# Altium integrated library CUBIC_FC.IntLib: 64 symbols (part 3 of 3)
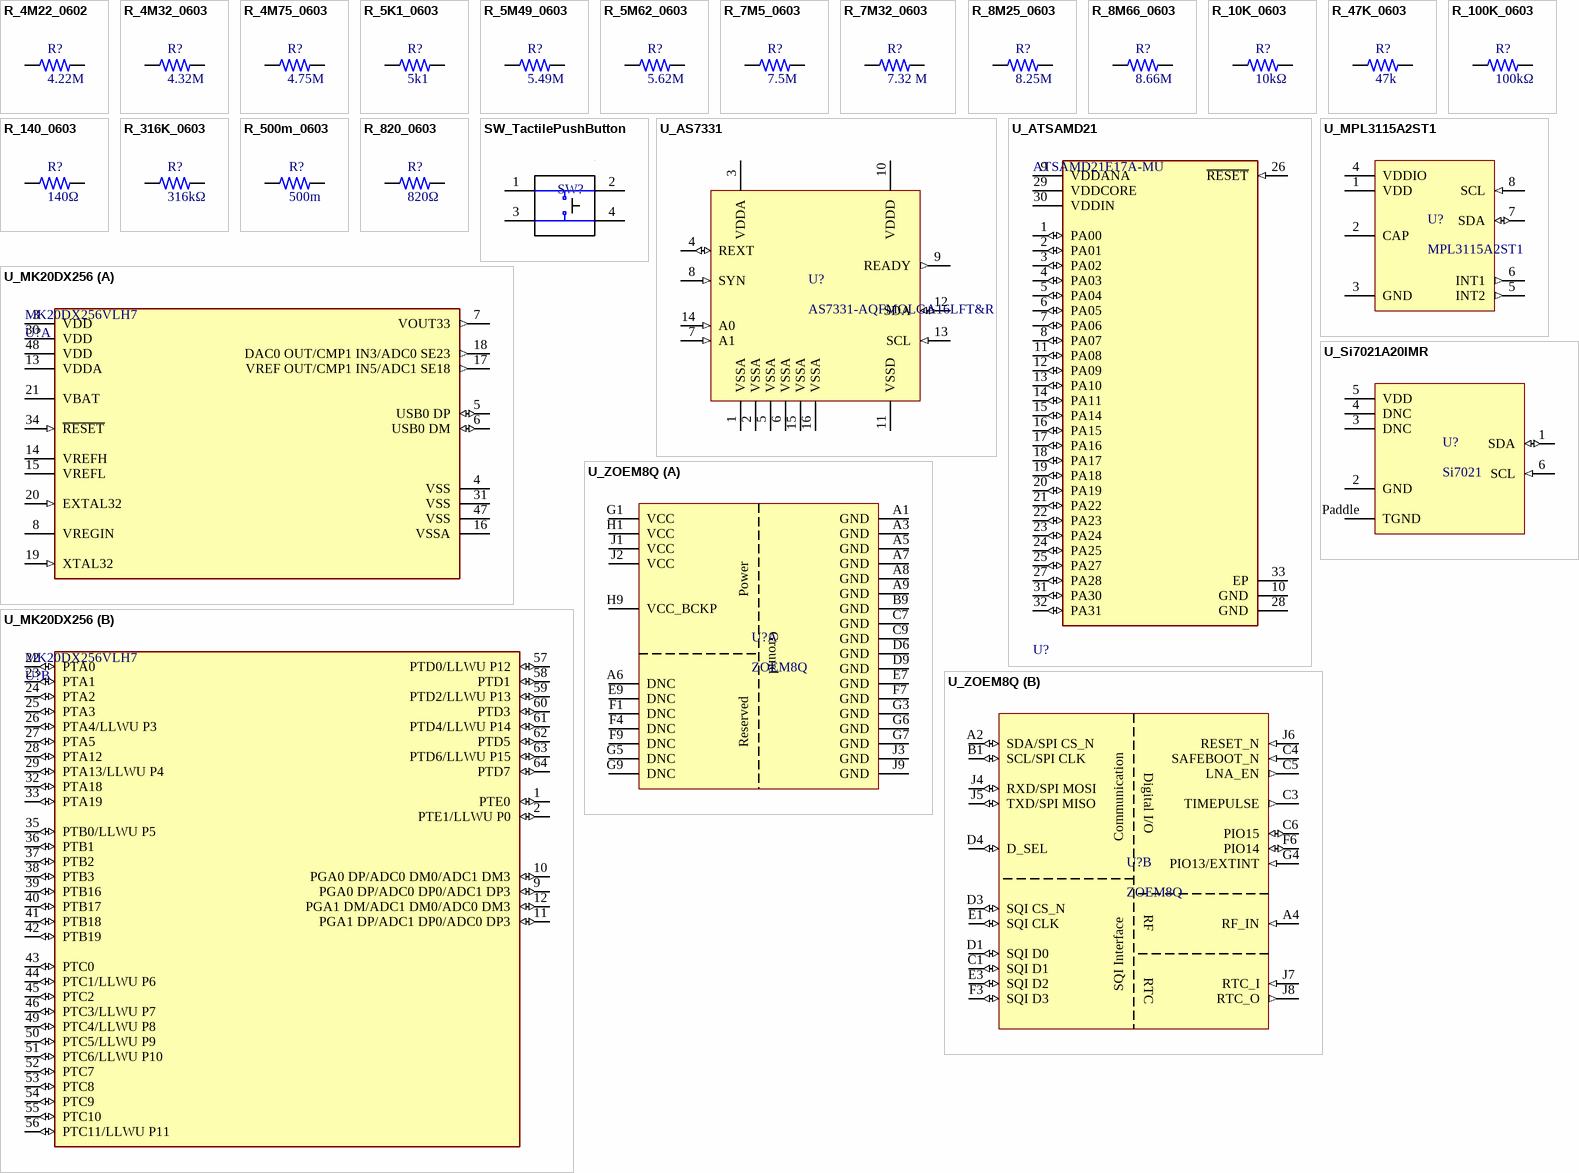
[diagram p3: symbols R_4M22_0602 to U_ZOEM8Q]

## R_8M25_0603
designator R?, comment 8.25M
Fixed Resistor, Metal Glaze/thick Film, 0.1W, 8250000ohm, 75V, 1% +/-Tol, 100ppm/Cel, Surface Mount, 0603; Manufacturer: Vishay; Manufacturer Part Number: CRCW06038M25FKEA; Power: 100mW; Rated Temperature: 70°C; Value: 8.25MR; Temperature Coefficient: 100ppm/°C; Package Height: 0.45mm; Package Length: 1.55mm; Package Width: 0.85mm; Reference Standard: AEC-Q200; Supplier: Digikey; Supplier Part Number: 541-8.25MHCT-ND; RoHS: Yes; Category: Chip SMD Resistors; Stock: 15579; Pricing: 1=0.1, 10=0.026, 50=0.0166, 100=0.0139, 500=0.0095, 1000=0.00821 (USD); Mounting Technology: Surface Mount; Pins: 2; Package Shape: Rectangular; Case/Package: 0603; Terminal Finish: Nickel; Min Operating Temperature: -55°C; Max Operating Temperature: 155°C; Tolerance: 1%; JESD-609 Code: e3; Resistor Type: FIXED RESISTOR; Construction: Chip; Package Style: SMTMeter; Packaging: Tape and Reel; Technology: METAL GLAZE/THICK FILM; Termination: Wraparound; Working Voltage: 75V; Reach SVHC Compliant: Yes; RoHS Compliant: Yes; ComponentLink1URL: https://datasheet.ciiva.com:443/pdfs/VipMasterIC/IC/VISH/VISH-S-A0007266705/VISH-S-A0007266705-1.pdf?src-supplier=IHS+Markit; ComponentLink1Description: https://datasheet.ciiva.com:443/pdfs/VipMasterIC/IC/VISH/VISH-S-A0007266705/VISH-S-A0007266705-1.pdf?src-supplier=IHS+Markit; ComponentLink2URL: https://datasheet.ciiva.com/7748/1697337-7748717.pdf?src-supplier=Element14; ComponentLink2Description: https://datasheet.ciiva.com/7748/1697337-7748717.pdf?src-supplier=Element14; ComponentLink3URL: https://datasheet.ciiva.com/7748/1697337-7748718.pdf?src-supplier=Element14; ComponentLink3Description: https://datasheet.ciiva.com/7748/1697337-7748718.pdf?src-supplier=Element14; ComponentLink4URL: https://datasheet.ciiva.com/2513/dcrcwe3-2513731.pdf?src-supplier=Digikey; ComponentLink4Description: https://datasheet.ciiva.com/2513/dcrcwe3-2513731.pdf?src-supplier=Digikey; ComponentLink5URL: https://datasheet.ciiva.com/2513/dcrcwe3-2513732.pdf?src-supplier=Digikey; ComponentLink5Description: https://datasheet.ciiva.com/2513/dcrcwe3-2513732.pdf?src-supplier=Digikey; ComponentLink6URL: https://datasheet.ciiva.com/2513/dcrcwe3-2513733.pdf?src-supplier=Digikey; ComponentLink6Description: https://datasheet.ciiva.com/2513/dcrcwe3-2513733.pdf?src-supplier=Digikey
footprint R_0603 (Chip Resistor, 2-Leads, Body 1.60x0.80mm, IPC Medium Density)
pins: 1, 2

## R_8M66_0603
designator R?, comment 8.66M
Fixed Resistor, Metal Glaze/thick Film, 0.1W, 8660000ohm, 75V, 1% +/-Tol, 100ppm/Cel, Surface Mount, 0603; Manufacturer: Vishay; Manufacturer Part Number: CRCW06038M66FKEA; Power: 100mW; Rated Temperature: 70°C; Value: 8.66MR; Temperature Coefficient: 100ppm/°C; Package Height: 0.45mm; Package Length: 1.55mm; Package Width: 0.85mm; Reference Standard: AEC-Q200; Supplier: Digikey; Supplier Part Number: 541-8.66MHCT-ND; RoHS: Yes; Category: Chip SMD Resistors; Stock: 28359; Pricing: 1=0.1, 10=0.026, 50=0.0166, 100=0.014, 500=0.00954, 1000=0.00824 (USD); Mounting Technology: Surface Mount; Pins: 2; Package Shape: Rectangular; Case/Package: 0603; Terminal Finish: Nickel; Min Operating Temperature: -55°C; Max Operating Temperature: 155°C; Tolerance: 1%; JESD-609 Code: e3; Resistor Type: FIXED RESISTOR; Construction: Chip; Package Style: SMTMeter; Packaging: Tape and Reel; Technology: METAL GLAZE/THICK FILM; Termination: Wraparound; Working Voltage: 75V; Reach SVHC Compliant: Yes; RoHS Compliant: Yes; ComponentLink1URL: https://datasheet.ciiva.com:443/pdfs/VipMasterIC/IC/VISH/VISH-S-A0007266705/VISH-S-A0007266705-1.pdf?src-supplier=IHS+Markit; ComponentLink1Description: https://datasheet.ciiva.com:443/pdfs/VipMasterIC/IC/VISH/VISH-S-A0007266705/VISH-S-A0007266705-1.pdf?src-supplier=IHS+Markit; ComponentLink2URL: https://datasheet.ciiva.com/5562/dcrcwe3-109170-5562415.pdf?src-supplier=Mouser; ComponentLink2Description: https://datasheet.ciiva.com/5562/dcrcwe3-109170-5562415.pdf?src-supplier=Mouser; ComponentLink3URL: https://datasheet.ciiva.com/22676/1700796-22676840.pdf?src-supplier=Element14; ComponentLink3Description: https://datasheet.ciiva.com/22676/1700796-22676840.pdf?src-supplier=Element14; ComponentLink4URL: https://datasheet.ciiva.com/22676/1700796-22676841.pdf?src-supplier=Element14; ComponentLink4Description: https://datasheet.ciiva.com/22676/1700796-22676841.pdf?src-supplier=Element14; ComponentLink5URL: https://datasheet.ciiva.com/9055/dcrcwe3-9055022.pdf?src-supplier=Avnet; ComponentLink5Description: https://datasheet.ciiva.com/9055/dcrcwe3-9055022.pdf?src-supplier=Avnet; ComponentLink6URL: https://datasheet.ciiva.com/2513/dcrcwe3-2513734.pdf?src-supplier=Digikey; ComponentLink6Description: https://datasheet.ciiva.com/2513/dcrcwe3-2513734.pdf?src-supplier=Digikey; ComponentLink7URL: https://datasheet.ciiva.com/2513/dcrcwe3-2513735.pdf?src-supplier=Digikey; ComponentLink7Description: https://datasheet.ciiva.com/2513/dcrcwe3-2513735.pdf?src-supplier=Digikey; ComponentLink8URL: https://datasheet.ciiva.com/2513/dcrcwe3-2513736.pdf?src-supplier=Digikey; ComponentLink8Description: https://datasheet.ciiva.com/2513/dcrcwe3-2513736.pdf?src-supplier=Digikey
footprint R_0603 (Chip Resistor, 2-Leads, Body 1.60x0.80mm, IPC Medium Density)
pins: 1, 2

## R_10K_0603
designator R?, comment 10kΩ
RES 10KOHM 0.1W 0603; Manufacturer: Stackpole Electronics; Manufacturer Part Number: RMCF0603FT10K0; Tolerance: 1%; Power: 100mW; Rated Temperature: 70°C; Value: 10kR; Temperature Coefficient: 100ppm/°C; Working Voltage: 75V; Package Height: 0.45mm; Package Length: 1.55mm; Package Width: 0.8mm; Reference Standard: AEC-Q200; Supplier: Digikey; Supplier Part Number: RMCF0603FT10K0CT-ND; RoHS: Yes; Category: Chip SMD Resistors; Stock: 7246104; Pricing: 1=0.1, 10=0.015, 50=0.009, 100=0.0075, 500=0.00498, 1000=0.00425 (USD); Mounting Technology: Surface Mount; Pins: 2; Package Shape: Rectangular; Case/Package: 0603; Terminal Finish: Nickel; Min Operating Temperature: -55°C; Max Operating Temperature: 155°C; JESD-609 Code: e3; Resistor Type: FIXED RESISTOR; Construction: Rectangular; Package Style: SMTMeter; Packaging: Tape and Reel; Technology: METAL GLAZE/THICK FILM; Termination: Wraparound; Reach SVHC Compliant: Yes; RoHS Compliant: Yes; ComponentLink1URL: https://datasheet.ciiva.com:443/pdfs/VipMasterIC/IC/SEIE/SEIE-S-A0009541969/SEIE-S-A0009541969-1.pdf?src-supplier=IHS+Markit; ComponentLink1Description: https://datasheet.ciiva.com:443/pdfs/VipMasterIC/IC/SEIE/SEIE-S-A0009541969/SEIE-S-A0009541969-1.pdf?src-supplier=IHS+Markit; ComponentLink2URL: http://components.arrow.com/part/dataview/43747082S6756917N1174?src-supplier=Arrow+Electronics; ComponentLink2Description: http://components.arrow.com/part/dataview/43747082S6756917N1174?src-supplier=Arrow+Electronics; ComponentLink3URL: https://datasheet.octopart.com/RMCF0603FT10K0-Stackpole-Electronics-datasheet-11547379.pdf?src-supplier=Future+Electronics; ComponentLink3Description: https://datasheet.octopart.com/RMCF0603FT10K0-Stackpole-Electronics-datasheet-11547379.pdf?src-supplier=Future+Electronics; ComponentLink4URL: https://www.seielect.com/catalog/SEI-RMCF_RMCP.pdf?src-supplier=Avnet; ComponentLink4Description: https://www.seielect.com/catalog/SEI-RMCF_RMCP.pdf?src-supplier=Avnet; ComponentLink5URL: http://www.seielect.com/catalog/sei-rmc.pdf?src-supplier=Future+Electronics; ComponentLink5Description: http://www.seielect.com/catalog/sei-rmc.pdf?src-supplier=Future+Electronics; ComponentLink6URL: https://www.verical.com/server-webapp/html/getDatasheet?partID=360913&src-supplier=Verical; ComponentLink6Description: https://www.verical.com/server-webapp/html/getDatasheet?partID=360913&src-supplier=Verical; ComponentLink7URL: https://datasheet.octopart.com/RMCF0603FT10K0-Stackpole-Electronics-datasheet-155966809.pdf?src-supplier=Master+Electronics; ComponentLink7Description: https://datasheet.octopart.com/RMCF0603FT10K0-Stackpole-Electronics-datasheet-155966809.pdf?src-supplier=Master+Electronics
footprint R_0603 (Chip Resistor, 2-Leads, Body 1.60x0.80mm, IPC Medium Density)
pins: 1, 2

## R_47K_0603
designator R?, comment 47k
Fixed Resistor, Metal Glaze/thick Film, 0.1W, 47000ohm, 75V, 1% +/-Tol, 100ppm/Cel, Surface Mount, 0603; Manufacturer: Yageo; Manufacturer Part Number: RC0603FR-0747KL; Additional Feature: LASER TRIMMABLE; Power: 100mW; Rated Temperature: 70°C; Value: 47kR; Temperature Coefficient: 100ppm/°C; Package Height: 0.45mm; Package Length: 1.6mm; Package Width: 0.8mm; Supplier: Digikey; Supplier Part Number: 311-47.0KHRCT-ND; RoHS: Yes; Category: Chip SMD Resistors; Stock: 9516223; Pricing: 1=0.1, 10=0.019, 50=0.0112, 100=0.0093, 500=0.00622, 1000=0.00532 (USD); Mounting Technology: Surface Mount; Pins: 2; Package Shape: Rectangular; Case/Package: 0603; Terminal Finish: Nickel; Min Operating Temperature: -55°C; Max Operating Temperature: 155°C; Tolerance: 1%; JESD-609 Code: e3; Resistor Type: FIXED RESISTOR; Construction: Chip; Package Style: SMTMeter; Packaging: Tape and Reel; Technology: METAL GLAZE/THICK FILM; Termination: Wraparound; Working Voltage: 75V; Reach SVHC Compliant: Yes; RoHS Compliant: Yes; ComponentLink1URL: https://datasheet.ciiva.com:443/pdfs/VipMasterIC/IC/YAGO/YAGO-S-A0008145938/YAGO-S-A0008145938-1.pdf?src-supplier=IHS+Markit; ComponentLink1Description: https://datasheet.ciiva.com:443/pdfs/VipMasterIC/IC/YAGO/YAGO-S-A0008145938/YAGO-S-A0008145938-1.pdf?src-supplier=IHS+Markit; ComponentLink2URL: https://datasheet.ciiva.com/11808/0900766b80f96399-11808118.pdf?src-supplier=Rs; ComponentLink2Description: https://datasheet.ciiva.com/11808/0900766b80f96399-11808118.pdf?src-supplier=Rs; ComponentLink3URL: https://datasheet.ciiva.com/2453/pyu-r-int-thick-7-2453932.pdf?src-supplier=Digikey; ComponentLink3Description: https://datasheet.ciiva.com/2453/pyu-r-int-thick-7-2453932.pdf?src-supplier=Digikey; ComponentLink4URL: https://datasheet.ciiva.com/2453/pyu-r-int-thick-7-2453933.pdf?src-supplier=Digikey; ComponentLink4Description: https://datasheet.ciiva.com/2453/pyu-r-int-thick-7-2453933.pdf?src-supplier=Digikey; ComponentLink5URL: https://datasheet.ciiva.com/2453/pyu-r-int-thick-7-2453931.pdf?src-supplier=Digikey; ComponentLink5Description: https://datasheet.ciiva.com/2453/pyu-r-int-thick-7-2453931.pdf?src-supplier=Digikey; ComponentLink6URL: https://datasheet.ciiva.com/7746/443971-7746362.pdf?src-supplier=Element14; ComponentLink6Description: https://datasheet.ciiva.com/7746/443971-7746362.pdf?src-supplier=Element14; ComponentLink7URL: https://datasheet.ciiva.com/7746/443971-7746361.pdf?src-supplier=Element14; ComponentLink7Description: https://datasheet.ciiva.com/7746/443971-7746361.pdf?src-supplier=Element14
footprint R_0603 (Chip Resistor, 2-Leads, Body 1.60x0.80mm, IPC Medium Density)
pins: 1, 2

## R_100K_0603
designator R?, comment 100kΩ
RES 100KOHM 0.1W 0603; Manufacturer: Yageo; Manufacturer Part Number: RC0603FR-07100KL; Resistance: 100 kOhms; Tolerance: 1 %; Power Rating: 100 mW; Voltage Rating: 50 V; Temperature Coefficient: 100 PPM / C; Supplier 1: Digi-Key; Supplier Part Number 1: 311-100KHRCT-ND; Stock 1: 13478446; Pricing 1: 1=0.1, 10=0.022, 100=0.009, 1000=0.0041, 2500=0.0035 (USD); Termination Style: SMD/SMT; Product: Thick Film Resistors General Purpose; Case Code - in: 0603; Case Code - mm: 1608; Series: RC; Operating Temperature Range: - 55 C to + 155 C; Packaging: Reel; ComponentLink1URL: http://www.farnell.com/datasheets/2167052.pdf?src-supplier=Element14; ComponentLink1Description: http://www.farnell.com/datasheets/2167052.pdf?src-supplier=Element14; ComponentLink2URL: http://www.farnell.com/datasheets/1868787.pdf?src-supplier=Element14; ComponentLink2Description: http://www.farnell.com/datasheets/1868787.pdf?src-supplier=Element14; ComponentLink3URL: http://documents.rs-components.com/techlib://itc_doclist_GB.htm?stockno=5048940&src-supplier=RSComponents; ComponentLink3Description: http://documents.rs-components.com/techlib://itc_doclist_GB.htm?stockno=5048940&src-supplier=RSComponents; ComponentLink4URL: http://www.farnell.com/datasheets/443971.pdf?src-supplier=Element14; ComponentLink4Description: http://www.farnell.com/datasheets/443971.pdf?src-supplier=Element14
footprint R_0603 (Chip Resistor, 2-Leads, Body 1.60x0.80mm, IPC Medium Density)
pins: 1, 2

## R_140_0603
designator R?, comment 140Ω
RES 140OHM 0.1w 0603; Manufacturer: Yageo; Manufacturer Part Number: RC0603FR-07140RL; Tolerance: 1%; Additional Feature: LASER TRIMMABLE; Power: 100mW; Rated Temperature: 70°C; Value: 140R; Temperature Coefficient: 100ppm/°C; Working Voltage: 75V; Package Height: 0.45mm; Package Length: 1.6mm; Package Width: 0.8mm; Supplier: Digikey; Supplier Part Number: 311-140HRCT-ND; RoHS: Yes; Category: Chip SMD Resistors; Stock: 298380; Pricing: 1=0.1, 10=0.019, 50=0.0112, 100=0.0093, 500=0.00622, 1000=0.00532 (USD); Mounting Technology: Surface Mount; Pins: 2; Package Shape: Rectangular; Case/Package: 0603; Terminal Finish: Nickel; Min Operating Temperature: -55°C; Max Operating Temperature: 155°C; JESD-609 Code: e3; Resistor Type: FIXED RESISTOR; Construction: Chip; Package Style: SMTMeter; Packaging: Tape and Reel; Technology: METAL GLAZE/THICK FILM; Termination: Wraparound; Reach SVHC Compliant: Yes; RoHS Compliant: Yes; ComponentLink1URL: https://datasheet.ciiva.com:443/pdfs/VipMasterIC/IC/YAGO/YAGO-S-A0008145938/YAGO-S-A0008145938-1.pdf?src-supplier=IHS+Markit; ComponentLink1Description: https://datasheet.ciiva.com:443/pdfs/VipMasterIC/IC/YAGO/YAGO-S-A0008145938/YAGO-S-A0008145938-1.pdf?src-supplier=IHS+Markit; ComponentLink2URL: https://datasheet.ciiva.com/11808/0900766b80c66297-11808828.pdf?src-supplier=Rs; ComponentLink2Description: https://datasheet.ciiva.com/11808/0900766b80c66297-11808828.pdf?src-supplier=Rs; ComponentLink3URL: https://datasheet.ciiva.com/15189/getdatasheetpartid-329205-15189606.pdf?src-supplier=Verical; ComponentLink3Description: https://datasheet.ciiva.com/15189/getdatasheetpartid-329205-15189606.pdf?src-supplier=Verical
footprint R_0603 (Chip Resistor, 2-Leads, Body 1.60x0.80mm, IPC Medium Density)
pins: 1, 2

## R_316K_0603
designator R?, comment 316kΩ
RES 316KOHM 0.1W 0603; Manufacturer: Yageo; Manufacturer Part Number: RC0603FR-07316KL; Tolerance: 1%; Additional Feature: LASER TRIMMABLE; Power: 100mW; Rated Temperature: 70°C; Value: 316kR; Temperature Coefficient: 100ppm/°C; Working Voltage: 75V; Package Height: 0.45mm; Package Length: 1.6mm; Package Width: 0.8mm; Supplier: Digikey; Supplier Part Number: 311-316KHRCT-ND; RoHS: Yes; Category: Chip SMD Resistors; Stock: 199288; Pricing: 1=0.1, 10=0.019, 50=0.0112, 100=0.0093, 500=0.00622, 1000=0.00532 (USD); Mounting Technology: Surface Mount; Pins: 2; Package Shape: Rectangular; Case/Package: 0603; Terminal Finish: Nickel; Min Operating Temperature: -55°C; Max Operating Temperature: 155°C; JESD-609 Code: e3; Resistor Type: FIXED RESISTOR; Construction: Chip; Package Style: SMTMeter; Packaging: Tape and Reel; Technology: METAL GLAZE/THICK FILM; Termination: Wraparound; Reach SVHC Compliant: Yes; RoHS Compliant: Yes; ComponentLink1URL: https://datasheet.ciiva.com:443/pdfs/VipMasterIC/IC/YAGO/YAGO-S-A0008145938/YAGO-S-A0008145938-1.pdf?src-supplier=IHS+Markit; ComponentLink1Description: https://datasheet.ciiva.com:443/pdfs/VipMasterIC/IC/YAGO/YAGO-S-A0008145938/YAGO-S-A0008145938-1.pdf?src-supplier=IHS+Markit; ComponentLink2URL: https://datasheet.ciiva.com/2454/pyu-r-int-thick-7-2454968.pdf?src-supplier=Digikey; ComponentLink2Description: https://datasheet.ciiva.com/2454/pyu-r-int-thick-7-2454968.pdf?src-supplier=Digikey; ComponentLink3URL: https://datasheet.ciiva.com/2454/pyu-r-int-thick-7-2454966.pdf?src-supplier=Digikey; ComponentLink3Description: https://datasheet.ciiva.com/2454/pyu-r-int-thick-7-2454966.pdf?src-supplier=Digikey; ComponentLink4URL: https://datasheet.ciiva.com/2454/pyu-r-int-thick-7-2454967.pdf?src-supplier=Digikey; ComponentLink4Description: https://datasheet.ciiva.com/2454/pyu-r-int-thick-7-2454967.pdf?src-supplier=Digikey
footprint R_0603 (Chip Resistor, 2-Leads, Body 1.60x0.80mm, IPC Medium Density)
pins: 1, 2

## R_500m_0603
designator R?, comment 500m
Fixed Resistor, Metal Glaze/thick Film, 0.1W, 0.5ohm, 5% +/-Tol, 800ppm/Cel, Surface Mount, 0603; Manufacturer: Yageo; Manufacturer Part Number: RL0603JR-070R5L; Additional Feature: LASER TRIMMABLE; Power: 100mW; Rated Temperature: 70°C; Value: 500mR; Temperature Coefficient: 800ppm/°C; Package Height: 0.45mm; Package Length: 1.6mm; Package Width: 0.8mm; Supplier: Digikey; Supplier Part Number: 13-RL0603JR-070R5LCT-ND; RoHS: Yes; Category: Chip SMD Resistors; Stock: 16696; Pricing: 1=0.24, 10=0.121, 50=0.0812, 100=0.0692, 500=0.04966, 1000=0.04371 (USD); Mounting Technology: Surface Mount; Pins: 2; Package Shape: Rectangular; Case/Package: 0603; Terminal Finish: Nickel; Min Operating Temperature: -55°C; Max Operating Temperature: 125°C; Tolerance: 5%; JESD-609 Code: e3; Resistor Type: FIXED RESISTOR; Construction: Chip; Package Style: SMTMeter; Packaging: Tape and Reel; Series: RL; Technology: METAL GLAZE/THICK FILM; Termination: Wraparound; Reach SVHC Compliant: Yes; RoHS Compliant: Yes; ComponentLink1URL: https://datasheet.ciiva.com:443/pdfs/VipMasterIC/IC/YAGO/YAGO-S-A0001508779/YAGO-S-A0001508779-1.pdf?src-supplier=IHS+Markit; ComponentLink1Description: https://datasheet.ciiva.com:443/pdfs/VipMasterIC/IC/YAGO/YAGO-S-A0001508779/YAGO-S-A0001508779-1.pdf?src-supplier=IHS+Markit; ComponentLink2URL: http://www.mouser.com/ds/2/447/PYu-RL_521_RoHS_L_5-2927.pdf?src-supplier=Mouser; ComponentLink2Description: http://www.mouser.com/ds/2/447/PYu-RL_521_RoHS_L_5-2927.pdf?src-supplier=Mouser; ComponentLink3URL: http://www.yageo.com/documents/recent/PYu-RL_Group_521_RoHS_L_2.pdf?src-supplier=Digikey; ComponentLink3Description: http://www.yageo.com/documents/recent/PYu-RL_Group_521_RoHS_L_2.pdf?src-supplier=Digikey
footprint R_0603 (Chip Resistor, 2-Leads, Body 1.60x0.80mm, IPC Medium Density)
pins: 1, 2

## R_820_0603
designator R?, comment 820Ω
RES 820OHM 0.1W 0603; Manufacturer: Stackpole Electronics; Manufacturer Part Number: RMCF0603FT820R; Tolerance: 1%; Power: 100mW; Rated Temperature: 70°C; Value: 820R; Temperature Coefficient: 100ppm/°C; Working Voltage: 75V; Package Height: 0.45mm; Package Length: 1.55mm; Package Width: 0.8mm; Reference Standard: AEC-Q200; Supplier: Digikey; Supplier Part Number: RMCF0603FT820RDKR-ND; RoHS: Yes; Category: Chip SMD Resistors; Stock: 449150; Pricing: 1=0.1, 10=0.015, 50=0.009, 100=0.0075, 500=0.00498, 1000=0.00425 (USD); Mounting Technology: Surface Mount; Pins: 2; Package Shape: Rectangular; Case/Package: 0603; Terminal Finish: Nickel; Min Operating Temperature: -55°C; Max Operating Temperature: 155°C; JESD-609 Code: e3; Resistor Type: FIXED RESISTOR; Construction: Rectangular; Package Style: SMTMeter; Packaging: Tape and Reel; Technology: METAL GLAZE/THICK FILM; Termination: Wraparound; Reach SVHC Compliant: Yes; RoHS Compliant: Yes; ComponentLink1URL: https://datasheet.ciiva.com:443/pdfs/VipMasterIC/IC/SEIE/SEIE-S-A0009541969/SEIE-S-A0009541969-1.pdf?src-supplier=IHS+Markit; ComponentLink1Description: https://datasheet.ciiva.com:443/pdfs/VipMasterIC/IC/SEIE/SEIE-S-A0009541969/SEIE-S-A0009541969-1.pdf?src-supplier=IHS+Markit; ComponentLink2URL: https://www.seielect.com/catalog/SEI-RMCF_RMCP.pdf?src-supplier=Avnet; ComponentLink2Description: https://www.seielect.com/catalog/SEI-RMCF_RMCP.pdf?src-supplier=Avnet; ComponentLink3URL: https://www.seielect.com/Catalog/SEI-RMCF_RMCP.pdf?src-supplier=Digikey; ComponentLink3Description: https://www.seielect.com/Catalog/SEI-RMCF_RMCP.pdf?src-supplier=Digikey; ComponentLink4URL: https://www.seielect.com/catalog/SEI-Packaging.pdf?src-supplier=Digikey; ComponentLink4Description: https://www.seielect.com/catalog/SEI-Packaging.pdf?src-supplier=Digikey
footprint R_0603 (Chip Resistor, 2-Leads, Body 1.60x0.80mm, IPC Medium Density)
pins: 1, 2

## SW_TactilePushButton
designator SW?  (value not drawn)
6 x 6 mm, 4.3 ~ 17 mm Actuator Height, 100 ~ 260 gf, Through Hole, SPST, Tactile Switch; Manufacturer: CUI Devices; Manufacturer Part Number: TS02-66-60-BK-100-LCR-D; Supplier: Digikey; Supplier Part Number: 2223-TS02-66-60-BK-100-LCR-D-ND; RoHS: No; Category: Tactile Switches; Stock: 3824; Pricing: 1=0.1, 10=0.097, 25=0.0916, 100=0.0833, 250=0.07832, 500=0.07166, 1000=0.05999, 2500=0.05833, 5000=0.05499 (USD)
footprint SW_Tactile (Tactile, 4-pin pushbutton w/ through hole leads)
pins: 1, 2, 3, 4

## U_AS7331
designator U?, comment AS7331-AQFMOLGA16LFT&R
Optical Sensor Ultraviolet (UV) 260nm ~ 360nm I2C 16-TFLGA Module; Manufacturer: Osram Opto; Supplier: Digikey; Supplier Part Number: 4991-AS7331_MOLGA16LFT&RDPCT-ND; Manufacturer Part Number: AS7331-AQFMOLGA16LFT&R; RoHS: No; Stock: 1805; Pricing: 1=10.86, 10=8.688, 25=8.0364, 100=6.9504, 500=6.51602 (USD)
footprint U_AS7331 (QFN, 16-Leads, Body 2.60x3.65mm, Pitch 0.50mm, IPC Medium Density)
pins: 1 VSSA (power), 2 VSSA (power), 3 VDDA (power), 4 REXT (io), 5 VSSA (power), 6 VSSA (power), 7 A1 (in), 8 SYN (in), 9 READY (out), 10 VDDD (power), 11 VSSD (power), 12 SDA (io), 13 SCL (in), 14 A0 (in), 15 VSSA (power), 16 VSSA (power)

## U_ATSAMD21
designator U?, comment ATSAMD21E17A-MU
IC MCU 32BIT 128KB FLASH 32QFN; Frequency: 48MHz; Core Architecture: ARM; Peripherals: Brown-out Detect/Reset; Number of I/Os: 26; Oscillator Type: Internal; Interface: I2C; Case/Package: QFN; Series: SAM D21E; Memory Type: FLASH; RoHS Compliant: Yes; Mount: Surface Mount; Max Operating Temperature: 85°C; Min Operating Temperature: -40°C; Memory Size: 128KB; Packaging: Tray
footprint U_ATSAMD21 (32-pin QFN)
pins: 1 PA00 (io), 2 PA01 (io), 3 PA02 (io), 4 PA03 (io), 5 PA04 (io), 6 PA05 (io), 7 PA06 (io), 8 PA07 (io), 9 VDDANA (power), 10 GND (power), 11 PA08 (io), 12 PA09 (io), 13 PA10 (io), 14 PA11 (io), 15 PA14 (io), 16 PA15 (io), 17 PA16 (io), 18 PA17 (io), 19 PA18 (io), 20 PA19 (io), 21 PA22 (io), 22 PA23 (io), 23 PA24 (io), 24 PA25 (io), 25 PA27 (io), 26 ~{RESET} (in), 27 PA28 (io), 28 GND (power), 29 VDDCORE (power), 30 VDDIN (power), 31 PA30 (io), 32 PA31 (io), 33 EP

## U_MK20DX256
designator U?, comment MK20DX256VLH7
IC MCU 32BIT 256KB FLASH 64LQFP; Oscillator Type: Internal; Watchdog Timer: Yes; Peripherals: POR; RAM Size: 64KB; Number of I2C Channels: 2; Max Supply Voltage: 3.6V; Interface: I2C; Frequency: 72MHz; Number of UART Channels: 3; Number of PWM Channels: 8; Number of Timers/Counters: 14; Min Supply Voltage: 1.71V; Data Bus Width: 32b; Number of I/Os: 40; Number of USB Channels: 1; Core Architecture: ARM; Radiation Hardening: No; Case/Package: LQFP; Package Quantity: 160; Halogen Free: Halogen Free; Memory Type: FLASH; Contact Plating: Tin; Number of ADC Channels: 2; Width: 10mm; Packaging: Tray; Max Operating Temperature: 105°C; Min Operating Temperature: -40°C; Mount: Surface Mount; Length: 10mm; Number of Pins: 64; Height: 1.6mm; Memory Size: 256KB; Max Frequency: 72MHz; Weight: 0.012224oz; REACH SVHC: No SVHC; Number of SPI Channels: 1; Lead Free: Lead Free
footprint U_MK20DX256 (64-pin LQFP)
part A pins: 3 VDD (power), 4 VSS (power), 5 USB0 DP (io), 6 USB0 DM (io), 7 VOUT33 (out), 8 VREGIN (power), 13 VDDA (power), 14 VREFH (power), 15 VREFL (power), 16 VSSA (power), 17 VREF OUT/CMP1 IN5/ADC1 SE18 (out), 18 DAC0 OUT/CMP1 IN3/ADC0 SE23 (out), 19 XTAL32 (in), 20 EXTAL32 (in), 21 VBAT (power), 30 VDD (power), 31 VSS (power), 34 ~{RESET} (in), 47 VSS (power), 48 VDD (power)
part B pins: 1 PTE0 (io), 2 PTE1/LLWU P0 (io), 9 PGA0 DP/ADC0 DP0/ADC1 DP3 (io), 10 PGA0 DP/ADC0 DM0/ADC1 DM3 (io), 11 PGA1 DP/ADC1 DP0/ADC0 DP3 (io), 12 PGA1 DM/ADC1 DM0/ADC0 DM3 (io), 22 PTA0 (io), 23 PTA1 (io), 24 PTA2 (io), 25 PTA3 (io), 26 PTA4/LLWU P3 (io), 27 PTA5 (io), 28 PTA12 (io), 29 PTA13/LLWU P4 (io), 32 PTA18 (io), 33 PTA19 (io), 35 PTB0/LLWU P5 (io), 36 PTB1 (io), 37 PTB2 (io), 38 PTB3 (io), 39 PTB16 (io), 40 PTB17 (io), 41 PTB18 (io), 42 PTB19 (io), 43 PTC0 (io), 44 PTC1/LLWU P6 (io), 45 PTC2 (io), 46 PTC3/LLWU P7 (io), 49 PTC4/LLWU P8 (io), 50 PTC5/LLWU P9 (io), 51 PTC6/LLWU P10 (io), 52 PTC7 (io), 53 PTC8 (io), 54 PTC9 (io), 55 PTC10 (io), 56 PTC11/LLWU P11 (io), 57 PTD0/LLWU P12 (io), 58 PTD1 (io), 59 PTD2/LLWU P13 (io), 60 PTD3 (io), 61 PTD4/LLWU P14 (io), 62 PTD5 (io), 63 PTD6/LLWU P15 (io), 64 PTD7 (io)

## U_MPL3115A2ST1
designator U?, comment MPL3115A2ST1
Board Mount Pressure Sensors Horizon I2C ST; Manufacturer: NXP Semiconductors; Supplier: Mouser; Supplier Part Number: 771-MPL3115A2ST1; Manufacturer Part Number: MPL3115A2ST1; RoHS: No; Category: Uncategorized; Stock: 320; Pricing: 1=7.54, 10=6.03, 50=6.03, 100=4.78, 250=4.63, 500=4.48, 1000=4.18, 2000=4.11, 10000=4.18 (USD)
footprint U_MPL3115A2 (QFN, 8-Leads, Body 3.00x5.00mm, Pitch 0.00mm/1.25mm, IPC Medium Density)
pins: 1 VDD (power), 2 CAP (power), 3 GND (power), 4 VDDIO (power), 5 INT2 (out), 6 INT1 (out), 7 SDA (io), 8 SCL (in)

## U_Si7021A20IMR
designator U?, comment Si7021
Serial Switch/Digital Sensor, 14 Bit(s), 0.40Cel, Square, Surface Mount; Manufacturer: Silicon Labs; Manufacturer Part Number: SI7021-A20-IMR; Accuracy-Max (Cel): 0.4°C; Number of Bits: 14; Operating Current-Max: 4mA; Output Interface Type: I2C; Sensor Type: TEMPERATURE SENSOR,SWITCH/DIGITAL OUTPUT,SERIAL; Max Supply Voltage: 3.6V; Min Supply Voltage: 1.9V; Body Breadth: 3inch; Body Height: 0.75mm; Body Length or Diameter: 3mm; Supplier: Digikey; Supplier Part Number: 336-5200-1-ND; RoHS: Yes; Category: Temperature and Humidity Sensors; Stock: 14883; Pricing: 1=8.64, 10=6.908, 25=6.3904, 100=5.5267, 500=5.1813, 1000=4.83588 (USD); Mounting Technology: Surface Mount; Package Shape/Style: Square; Min Operating Temperature: -40°C; Max Operating Temperature: 125°C; Termination: Solder; Reach SVHC Compliant: Yes; RoHS Compliant: Yes; ComponentLink1URL: https://datasheet.ciiva.com:443/pdfs/VipMasterIC/IC/SILC/SILC-S-A0009375758/SILC-S-A0009375758-1.pdf?src-supplier=IHS+Markit; ComponentLink1Description: https://datasheet.ciiva.com:443/pdfs/VipMasterIC/IC/SILC/SILC-S-A0009375758/SILC-S-A0009375758-1.pdf?src-supplier=IHS+Markit; ComponentLink2URL: https://www.silabs.com/documents/public/data-sheets/Si7021-A20.pdf?src-supplier=Digikey; ComponentLink2Description: https://www.silabs.com/documents/public/data-sheets/Si7021-A20.pdf?src-supplier=Digikey; ComponentLink3URL: https://www.silabs.com/Support%20Documents%2fTechnicalDocs%2fSi7021-A20.pdf?src-supplier=Digikey; ComponentLink3Description: https://www.silabs.com/Support%20Documents%2fTechnicalDocs%2fSi7021-A20.pdf?src-supplier=Digikey; ComponentLink4URL: https://www.silabs.com/Support%20Documents/TechnicalDocs/Si7021-A20.pdf?src-supplier=Avnet; ComponentLink4Description: https://www.silabs.com/Support%20Documents/TechnicalDocs/Si7021-A20.pdf?src-supplier=Avnet
footprint U_Si7021 (QFN, 6-Leads, Body 3.00x3.00mm, Pitch 1.00mm, Thermal Pad 1.60x2.50mm, IPC Medium Density)
pins: 1 SDA (io), 2 GND (power), 3 DNC (power) "Mechanical stabilizer, tie to VDD", 4 DNC (power) "Mechanical stabilizer, tie to VDD", 5 VDD (power), 6 SCL (in), Paddle TGND

## U_ZOEM8Q
designator U?, comment ZOEM8Q
U-Blox M8 Concurrent GNSS S-LGA 3.0 V SiP, TCXO, ROM, 4.5x4.5 mm, 1000 pcs/reel; Manufacturer Part Number: ZOE-M8Q-0; Supplier: Digikey; Supplier Part Number: 672-ZOE-M8Q-0CT-ND; Manufacturer: u-blox; RoHS: Yes; Category: RF Receivers, Transceivers; Stock: 5600; Pricing: 1=29, 100=14.7 (USD); ComponentLink1URL: https://datasheet.octopart.com/ZOE-M8Q-0-u-blox-datasheet-165471867.pdf?src-supplier=Future+Electronics; ComponentLink1Description: https://datasheet.octopart.com/ZOE-M8Q-0-u-blox-datasheet-165471867.pdf?src-supplier=Future+Electronics
footprint U_ZOE_M8 (LGA, 51-Leads, Body 4.50x4.50mmx1.10mm, Pitch 0.50mm)
part A pins: A1 GND (power), A3 GND (power), A5 GND (power), A6 DNC, A7 GND (power), A8 GND (power), A9 GND (power), B9 GND (power), C7 GND (power), C9 GND (power), D6 GND (power), D9 GND (power), E7 GND (power), E9 DNC, F1 DNC, F4 DNC, F7 GND (power), F9 DNC, G1 VCC (power), G3 GND (power), G5 DNC, G6 GND (power), G7 GND (power), G9 DNC, H1 VCC (power), H9 VCC_BCKP (power), J1 VCC (power), J2 VCC (power), J3 GND (power), J9 GND (power)
part B pins: A2 SDA/SPI CS_N (io), A4 RF_IN (in), B1 SCL/SPI CLK (io), C1 SQI D1 (io), C3 TIMEPULSE (out), C4 SAFEBOOT_N (in), C5 LNA_EN (out), C6 PIO15 (io), D1 SQI D0 (io), D3 SQI CS_N (io), D4 D_SEL (io), E1 SQI CLK (io), E3 SQI D2 (io), F3 SQI D3 (io), F6 PIO14 (io), G4 PIO13/EXTINT (in), J4 RXD/SPI MOSI (io), J5 TXD/SPI MISO (io), J6 RESET_N (in), J7 RTC_I (in), J8 RTC_O (out)
part A text: Power; Ground; Reserved
part B text: Communication; Digital I/O; RF; SQI Interface; RTC